# Altium schematic symbol library 2364 Adapter.SCHLIB: 4 symbols
Pins are listed as number, name and electrical type; pins without a type are passive.

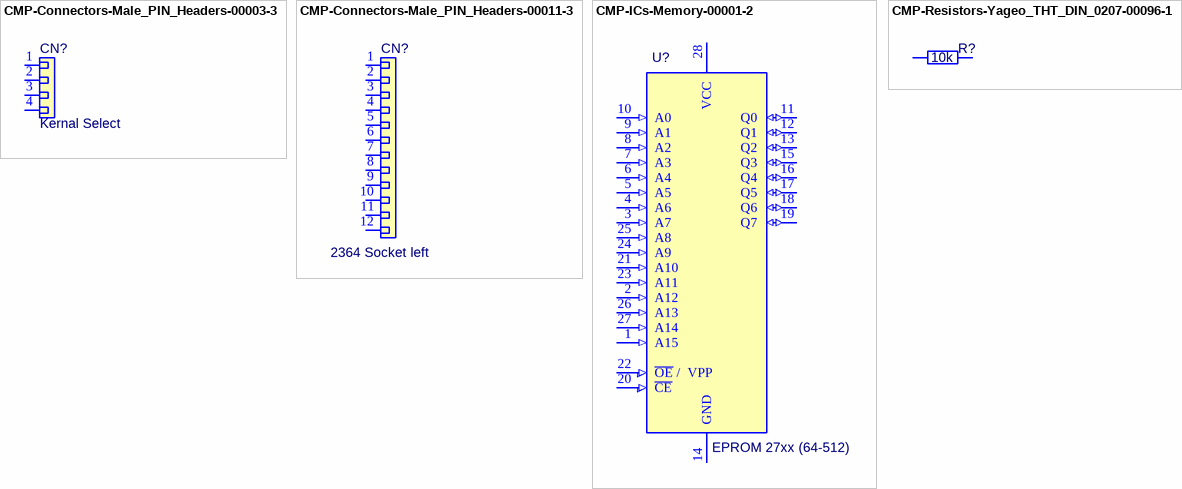
[diagram p0: symbols CMP-Connectors-Male_PIN_Headers-00003-3 to CMP-Resistors-Yageo_THT_DIN_0207-00096-1]

## CMP-Connectors-Male_PIN_Headers-00003-3
designator CN?, comment Kernal Select
CONN HEADER .100" SNGL STR 4POS; Manufacturer: Sullins; Manufacturer Part Number: PRPC004SFAN-RC; Pitch: 0.1inch; Connector Type: Male Pin; Number of Positions: 4; Contact Plating: Gold; Package Quantity: 1; Number of Rows: 1; Packaging: Bulk; Contact Mating Length: 0.318inch; Termination: Solder; Color: Black; Mount: Through Hole; Component Type: Male PIN Headers
footprint Pin Header 01x04 2.54mm Horizontal Male
pins: 1, 2, 3, 4

## CMP-Connectors-Male_PIN_Headers-00011-3
designator CN?, comment 2364 Socket left
CONN HEADER .100 SNGL STR 12POS; Manufacturer: Sullins; Manufacturer Part Number: PRPC012SFAN-RC; Pitch: 0.1inch; Connector Type: Male Pin; Number of Positions: 12; Color: Black; Number of Rows: 1; Contact Mating Length: 0.318inch; Termination: Solder; Mount: Through Hole; Packaging: Bulk; Contact Plating: Gold; Package Quantity: 1; Component Type: Male PIN Headers
footprint Pin Header 01x12 2.54mm Horizontal Male
pins: 1, 2, 3, 4, 5, 6, 7, 8, 9, 10, 11, 12

## CMP-ICs-Memory-00001-2
designator U?, comment EPROM 27xx (64-512)
IC EEPROM 512KBIT 45NS 28DIP; Manufacturer: Winbond; Manufacturer Part Number: W27C512-45Z; Interface: Parallel; Density: 512Kb; Frequency: 45GHz; Operating Supply Voltage: 5V; Memory Size: 512000B; Case/Package: DIP; Memory Type: EEPROM; Number of Pins: 28; Lead Free: Lead Free; Package Quantity: 15; Packaging: Rail/Tube; Radiation Hardening: No; Access Time: 45ns; Min Operating Temperature: 0°C; Max Operating Temperature: 70°C; Component Type: Memorys
footprint Winbond W27C512-45Z DIP-28 with Socket
footprint Winbond W27C512-45Z DIP-28
pins: 1 A15 (in), 2 A12 (in), 3 A7 (in), 4 A6 (in), 5 A5 (in), 6 A4 (in), 7 A3 (in), 8 A2 (in), 9 A1 (in), 10 A0 (in), 11 Q0 (io), 12 Q1 (io), 13 Q2 (io), 14 GND, 15 Q3 (io), 16 Q4 (io), 17 Q5 (io), 18 Q6 (io), 19 Q7 (io), 20 ~{CE} (in), 21 A10 (in), 22 ~{OE} /  VPP (in), 23 A11 (in), 24 A9 (in), 25 A8 (in), 26 A13 (in), 27 A14 (in), 28 VCC (power)

## CMP-Resistors-Yageo_THT_DIN_0207-00096-1
designator R?, comment 10k
RES 10K OHM 1/4W 5% AXIAL; Manufacturer: Yageo; Manufacturer Part Number: CFR-25JB-52-10K; Resistance: 10kR; Temperature Coefficient: 500ppm/°C; Max Power Dissipation: 250mW; Case/Package: Axial; Number of Terminations: 2; Composition: Carbon Film; Packaging: Bulk; Min Operating Temperature: -55°C; Lead Free: Lead Free; Package Quantity: 200; Max Operating Temperature: 155°C; Length: 0.248inch; Tolerance: 5%; Component Type: Yageo THT DIN 0207
footprint 10 kOhm R Axial DIN0207 L6.3mm D2.5mm P7.62mm Horizontal
footprint 10 kOhm R Axial DIN0207 L6.3mm D2.5mm P10.16mm Horizontal
footprint 10 kOhm R Axial DIN0207 L6.3mm D2.5mm P15.24mm Horizontal
footprint 10 kOhm R Axial DIN0207 L6.3mm D2.5mm P2.54mm Vertical
footprint 10 kOhm R Axial DIN0207 L6.3mm D2.5mm P5.08mm Vertical
pins: 1, 2